# EAGLE library part AD7938 (library QuantumOptics)
AD7938, Analog Devices, ADC octal 12-bit parallel 1.5MSPS. http://www.analog.com/UploadedFiles/Data_Sheets/426980930AD7938_9_a.pdf
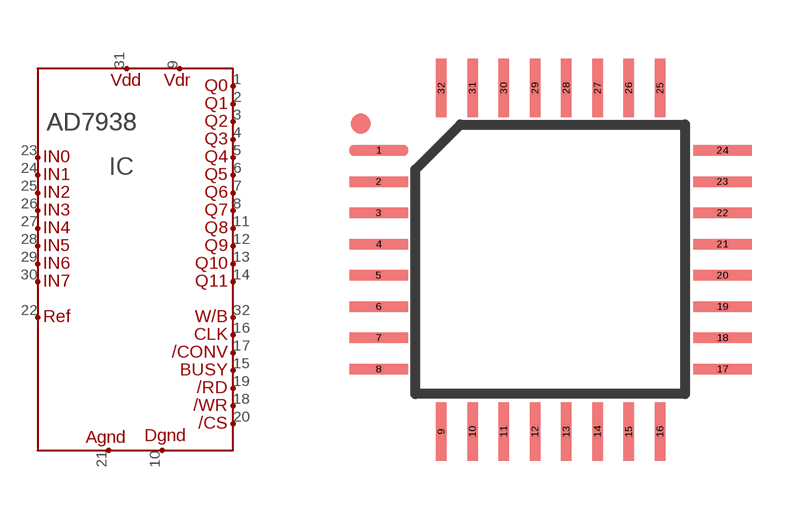
[diagram p66: symbol with the pads of TQFP-32; footprint TQFP-32]

Designator prefix IC

## AD7938  [TQFP-32]
1  DB0  out
2  DB1  out
3  DB2  out
4  DB3  out
5  DB4  out
6  DB5  out
7  DB6  out
8  DB7  out
9  VDR
10  DGND
11  DB8  out
12  DB9  out
13  DB10  out
14  DB11  out
15  BUSY  out
16  CLK  in
17  /CONV  in
18  /WR  in
19  /RD  in
20  /CS  in
21  AGND
22  REF
23  IN0  in
24  IN1  in
25  IN2  in
26  IN3  in
27  IN4  in
28  IN5  in
29  IN6  in
30  IN7  in
31  VDD
32  W/B  in

## Footprint TQFP-32 (pad centres in mm)
TQFP-32, from Analog Devices. 0.5mm pin pitch. NOTICE - PCB should be laid out on a 0.5mm grid, or 0.0025" if you have to then finish routing manually. Use 0.008"max traces with 0.009"min clearances.
smd 1.5 x 0.27: 1 -4,2.4; 2 -4,1.6; 3 -4,0.8; 4 -4,0; 5 -4,-0.8; 6 -4,-1.6; 7 -4,-2.4; 8 -4,-3.2; 17 4.8,-3.2; 18 4.8,-2.4; 19 4.8,-1.6; 20 4.8,-0.8; 21 4.8,0; 22 4.8,0.8; 23 4.8,1.6; 24 4.8,2.4
smd 0.27 x 1.5: 9 -2.4,-4.8; 10 -1.6,-4.8; 11 -0.8,-4.8; 12 0,-4.8; 13 0.8,-4.8; 14 1.6,-4.8; 15 2.4,-4.8; 16 3.2,-4.8; 25 3.2,4; 26 2.4,4; 27 1.6,4; 28 0.8,4; 29 0,4; 30 -0.8,4; 31 -1.6,4; 32 -2.4,4